# EAGLE library part 98401-801-40LF (library PocketCHIP-v1.0)
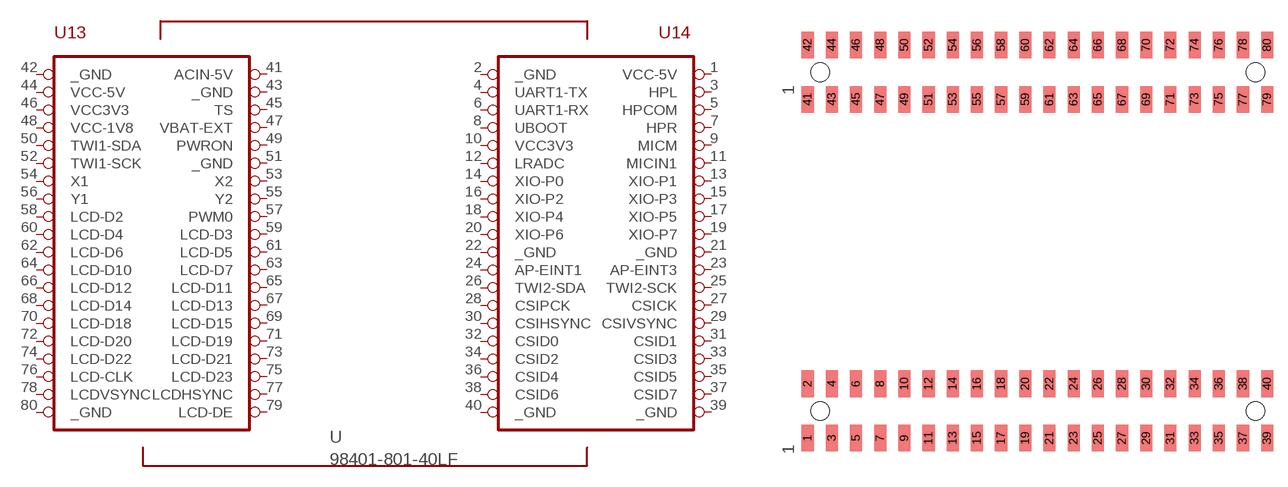
[diagram p0: symbol with the pads of 98401-801-40LF; footprint 98401-801-40LF]

Designator prefix -

## 98401-801-40LF  [98401-801-40LF]
1  VCC-5V  pas
2  _GND  pas
3  HPL  pas
4  UART1-TX  pas
5  HPCOM  pas
6  UART1-RX  pas
7  HPR  pas
8  UBOOT  pas
9  MICM  pas
10  VCC3V3  pas
11  MICIN1  pas
12  LRADC  pas
13  XIO-P1  pas
14  XIO-P0  pas
15  XIO-P3  pas
16  XIO-P2  pas
17  XIO-P5  pas
18  XIO-P4  pas
19  XIO-P7  pas
20  XIO-P6  pas
21  _GND  pas
22  _GND  pas
23  AP-EINT3  pas
24  AP-EINT1  pas
25  TWI2-SCK  pas
26  TWI2-SDA  pas
27  CSICK  pas
28  CSIPCK  pas
29  CSIVSYNC  pas
30  CSIHSYNC  pas
31  CSID1  pas
32  CSID0  pas
33  CSID3  pas
34  CSID2  pas
35  CSID5  pas
36  CSID4  pas
37  CSID7  pas
38  CSID6  pas
39  _GND  pas
40  _GND  pas
41  ACIN-5V  pas
42  _GND  pwr
43  _GND  pas
44  VCC-5V
45  TS  pas
46  VCC3V3
47  VBAT-EXT  pas
48  VCC-1V8
49  PWRON  pas
50  TWI1-SDA  pas
51  _GND  pas
52  TWI1-SCK  pas
53  X2  pas
54  X1  pas
55  Y2  pas
56  Y1  pas
57  PWM0  pas
58  LCD-D2  pas
59  LCD-D3  pas
60  LCD-D4  pas
61  LCD-D5  pas
62  LCD-D6  pas
63  LCD-D7  pas
64  LCD-D10  pas
65  LCD-D11  pas
66  LCD-D12  pas
67  LCD-D13  pas
68  LCD-D14  pas
69  LCD-D15  pas
70  LCD-D18  pas
71  LCD-D19  pas
72  LCD-D20  pas
73  LCD-D21  pas
74  LCD-D22  pas
75  LCD-D23  pas
76  LCD-CLK  pas
77  LCDHSYNC  pas
78  LCDVSYNC  pas
79  LCD-DE  pas
80  _GND  pwr

## Footprint 98401-801-40LF (pad centres in mm)
smd 1.27 x 2.79: 1 -24.175,-2.855; 2 -24.175,2.855; 3 -21.635,-2.855; 4 -21.635,2.855; 5 -19.095,-2.855; 6 -19.095,2.855; 7 -16.555,-2.855; 8 -16.555,2.855; 9 -14.015,-2.855; 10 -14.015,2.855; 11 -11.475,-2.855; 12 -11.475,2.855; 13 -8.935,-2.855; 14 -8.935,2.855; 15 -6.395,-2.855; 16 -6.395,2.855; 17 -3.855,-2.855; 18 -3.855,2.855; 19 -1.315,-2.855; 20 -1.315,2.855; 21 1.225,-2.855; 22 1.225,2.855; 23 3.765,-2.855; 24 3.765,2.855; 25 6.305,-2.855; 26 6.305,2.855; 27 8.845,-2.855; 28 8.845,2.855; 29 11.385,-2.855; 30 11.385,2.855; 31 13.925,-2.855; 32 13.925,2.855; 33 16.465,-2.855; 34 16.465,2.855; 35 19.005,-2.855; 36 19.005,2.855; 37 21.545,-2.855; 38 21.545,2.855; 39 24.085,-2.855; 40 24.085,2.855; 41 -24.175,32.705; 42 -24.175,38.415; 43 -21.635,32.705; 44 -21.635,38.415; 45 -19.095,32.705; 46 -19.095,38.415; 47 -16.555,32.705; 48 -16.555,38.415; 49 -14.015,32.705; 50 -14.015,38.415; 51 -11.475,32.705; 52 -11.475,38.415; 53 -8.935,32.705; 54 -8.935,38.415; 55 -6.395,32.705; 56 -6.395,38.415; 57 -3.855,32.705; 58 -3.855,38.415; 59 -1.315,32.705; 60 -1.315,38.415; 61 1.225,32.705; 62 1.225,38.415; 63 3.765,32.705; 64 3.765,38.415; 65 6.305,32.705; 66 6.305,38.415; 67 8.845,32.705; 68 8.845,38.415; 69 11.385,32.705; 70 11.385,38.415; 71 13.925,32.705; 72 13.925,38.415; 73 16.465,32.705; 74 16.465,38.415; 75 19.005,32.705; 76 19.005,38.415; 77 21.545,32.705; 78 21.545,38.415; 79 24.085,32.705; 80 24.085,38.415
hole 1.95 at 22.86,0
hole 1.95 at -22.86,0
hole 1.95 at -22.86,35.56
hole 1.95 at 22.86,35.56